# Altium schematic symbol library others.SchLib: 13 symbols
Pins are listed as number, name and electrical type; pins without a type are passive.

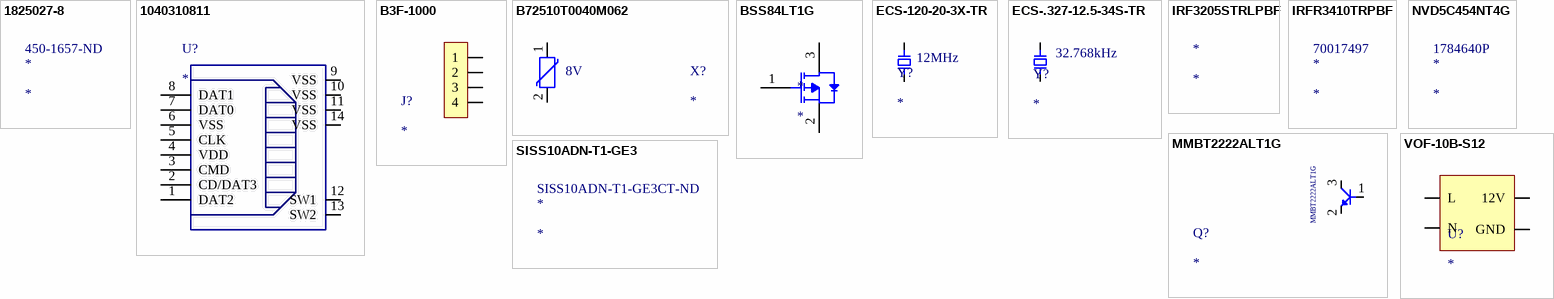
[diagram p0: symbols 1825027-8 to VOF-10B-S12]

## 1825027-8
designator *  Supplier Part Number 1: 450-1657-ND
Switch Tactile OFF (ON) SPST Round Button PC Pins 0.05A 24VDC 1.57N Thru-Hole Loose Piece; Manufacturer 1: TE Connectivity; Manufacturer Part Number 1: 1825027-8; Mechanical Life: 100000Cycles; Actuator Material: PBT; Actuator Color: Blue; Current Rating: 50mA; Max Voltage Rating (DC): 24V; Contact Resistance: 100mR; Illumination Type: Non-Illuminated; Switch Travel: 0.25mm; Switch Function: Off-Mom; Actuator Type: Standard; Actuator Length: 0.128inch; Supplier 1: Digi-Key; Stock 1: 233162; Pricing 1: 1=0,19000, 10=0,18000, 25=0,17080, 100=0,15520, 250=0,14584, 500=0,13344, 1000=0,11172, 2500=0,10861, 5000=0,10241 (USD); RoHS: Yes; Mount: Through Hole; Color: Blue; Contact Plating: Silver; Contact Material: Copper Alloy; Housing Material: Nylon; Material: Nylon; Min Operating Temperature: -35°C; Max Operating Temperature: 85°C; Packaging: Loose Piece; Package Quantity: 1000; Series: FSMRAJ, Alcoswitch; Termination: PC Pins; Orientation: Right Angle; Max Current Rating: 50mA; Voltage Rating (AC): 24V; Operating Force: 1.57N; Throw Configuration: SPST; Illumination Color: Blue; Voltage Rating (DC): 24V; Contact Current Rating: 50mA; Electrical Life: 100000Cycles; Type: Switch; Length: 7.11mm; Height: 7mm; Depth: 9.86mm; Radiation Hardening: No; RoHS Compliant: Yes; Lead Free: Lead Free; ELV: Compliant; ComponentLink1URL: https://datasheet.ciiva.com/30072/eng-cd-1825027-f-30072833.pdf?src-supplier=Onlinecomponents.com; ComponentLink1Description: https://datasheet.ciiva.com/30072/eng-cd-1825027-f-30072833.pdf?src-supplier=Onlinecomponents.com; ComponentLink2URL: https://datasheet.ciiva.com/16393/1825027-8-16393346.pdf?src-supplier=Future+Electronics; ComponentLink2Description: https://datasheet.ciiva.com/16393/1825027-8-16393346.pdf?src-supplier=Future+Electronics; ComponentLink3URL: https://datasheet.ciiva.com/8164/eng-cd-1825027-g4-8164921.pdf?src-supplier=Avnet; ComponentLink3Description: https://datasheet.ciiva.com/8164/eng-cd-1825027-g4-8164921.pdf?src-supplier=Avnet

## 1040310811
designator U?
1.10mm Pitch microSD Memory Card Connector, Surface Mount, Push-Pull Type, 1.42mm Height, with Detect Switch; Manufacturer 1: Molex; Manufacturer Part Number 1: 1040310811; Number of Contacts: 8; Current Rating: 500mA; Voltage Rating (AC): 10V; Mating Cycles: 10000; Gender: Female; Pitch: 1.1mm; Supplier 1: Digi-Key; Stock 1: 24019; Pricing 1: 1=2,12000, 10=1,80700, 100=1,49270, 1000=1,17842 (USD); RoHS: Yes; Mount: Standard,Surface Mount; Contact Material: Bronze; Contact Plating: Gold; Housing Material: Polymer; Min Operating Temperature: -25°C; Max Operating Temperature: 85°C; Number of Rows: 1; Orientation: Right Angle; Packaging: Tape and Reel; Package Quantity: 1; Termination: Solder; Connector Type: Connector; Number of Circuits: 8; Series: 104031; Length: 11.14mm; Width: 11.4mm; Height: 1.42mm; Depth: 11.4mm; Radiation Hardening: No; REACH SVHC: Unknown; Halogen Free: Low Halogen; ComponentLink1URL: https://datasheet.ciiva.com/16655/1040310811-memory-card-socket-16655292.pdf?src-supplier=Avnet+Europe; ComponentLink1Description: https://datasheet.ciiva.com/16655/1040310811-memory-card-socket-16655292.pdf?src-supplier=Avnet+Europe; ComponentLink2URL: https://datasheet.ciiva.com/4581/1040310811-memory-card-socket-153593-4581012.pdf?src-supplier=Mouser; ComponentLink2Description: https://datasheet.ciiva.com/4581/1040310811-memory-card-socket-153593-4581012.pdf?src-supplier=Mouser; ComponentLink3URL: https://datasheet.ciiva.com/683/1040310811-sd-683579.pdf?src-supplier=Digi-Key; ComponentLink3Description: https://datasheet.ciiva.com/683/1040310811-sd-683579.pdf?src-supplier=Digi-Key; ComponentLink4URL: https://datasheet.ciiva.com/3121/1040310811-memory-card-socket-3121437.pdf?src-supplier=Avnet; ComponentLink4Description: https://datasheet.ciiva.com/3121/1040310811-memory-card-socket-3121437.pdf?src-supplier=Avnet; ComponentLink5URL: https://datasheet.ciiva.com/15174/getdatasheetpartid-716154-15174887.pdf?src-supplier=Verical; ComponentLink5Description: https://datasheet.ciiva.com/15174/getdatasheetpartid-716154-15174887.pdf?src-supplier=Verical; ComponentLink6URL: https://datasheet.ciiva.com/16496/1040310811-memory-card-socket-16496702.pdf?src-supplier=Avnet+Asia; ComponentLink6Description: https://datasheet.ciiva.com/16496/1040310811-memory-card-socket-16496702.pdf?src-supplier=Avnet+Asia; ComponentLink7URL: https://datasheet.ciiva.com/683/1040310811-sd-683580.pdf?src-supplier=Digi-Key; ComponentLink7Description: https://datasheet.ciiva.com/683/1040310811-sd-683580.pdf?src-supplier=Digi-Key; ComponentLink8URL: https://datasheet.ciiva.com/683/1040310811-sd-683581.pdf?src-supplier=Digi-Key; ComponentLink8Description: https://datasheet.ciiva.com/683/1040310811-sd-683581.pdf?src-supplier=Digi-Key; Supplier Part Number 1: WM6357CT-ND
footprint micro sd
pins: 1 DAT2, 2 CD/DAT3, 3 CMD, 4 VDD, 5 CLK, 6 VSS, 7 DAT0, 8 DAT1, 9 VSS, 10 VSS, 11 VSS, 12 SW1, 13 SW2, 14 VSS

## B3F-1000
designator J?
Switch Tactile N.O. SPST Flat Round Button PC Pins 0.05A 24VDC 1000000Cycles 0.98N Thru-Hole Bag; Manufacturer 1: Omron; Manufacturer Part Number 1: B3F-1000; Actuator Color: Grey; Illumination Type: Non-Illuminated,Illuminated; Current Rating: 50mA; Max Voltage Rating (DC): 24V; Contact Resistance: 100mR; Switch Travel: 0.25mm; Switch Function: Off-Mom; Actuator Type: Standard; Number of Poles: 1; Actuator Length: 0.9mm; Supplier 1: RSComponents; Stock 1: 1660; Pricing 1: 50=0,47200, 125=0,43000, 250=0,39400, 500=0,36800 (GBP); RoHS: Yes; Mount: Through Hole; Number of Pins: 4; Contact Plating: Gold; Mechanical Life: 1000000Cycles; Weight: 0.008818oz; Contact Material: Gold,Silver; Min Operating Temperature: -25°C; Max Operating Temperature: 70°C; Package Quantity: 1500; Packaging: Bag; Series: B3F; Throw Configuration: SPST; Operating Force: 0.98N; Termination: PC Pins; Orientation: Straight; Voltage Rating (DC): 24V; Contact Current Rating: 50mA; Max Current Rating: 50mA; Electrical Life: 1000000Cycles; Insulation Resistance: 100MR; Length: 6mm; Width: 6mm; Height: 3.4mm; Depth: 6mm; Lead Free: Lead Free; RoHS Compliant: Yes; REACH SVHC: Unknown; ComponentLink1URL: https://datasheet.ciiva.com/26883/getdatasheetpartid-388862-26883373.pdf?src-supplier=Verical; ComponentLink1Description: https://datasheet.ciiva.com/26883/getdatasheetpartid-388862-26883373.pdf?src-supplier=Verical; ComponentLink2URL: https://datasheet.ciiva.com/19453/162886-19453387.pdf?src-supplier=Jameco; ComponentLink2Description: https://datasheet.ciiva.com/19453/162886-19453387.pdf?src-supplier=Jameco; ComponentLink3URL: https://datasheet.ciiva.com/2899/b3f-0811-2899719.pdf?src-supplier=Digi-Key; ComponentLink3Description: https://datasheet.ciiva.com/2899/b3f-0811-2899719.pdf?src-supplier=Digi-Key; ComponentLink4URL: https://datasheet.ciiva.com/5283/b3f-0811-26083-5283547.pdf?src-supplier=Mouser; ComponentLink4Description: https://datasheet.ciiva.com/5283/b3f-0811-26083-5283547.pdf?src-supplier=Mouser; ComponentLink5URL: https://datasheet.ciiva.com/16154/en-b3f-16154887.pdf?src-supplier=Onlinecomponents.com; ComponentLink5Description: https://datasheet.ciiva.com/16154/en-b3f-16154887.pdf?src-supplier=Onlinecomponents.com; ComponentLink6URL: https://datasheet.ciiva.com/14539/70175266-14539084.pdf?src-supplier=Allied+Electronics; ComponentLink6Description: https://datasheet.ciiva.com/14539/70175266-14539084.pdf?src-supplier=Allied+Electronics; ComponentLink7URL: https://datasheet.ciiva.com/1701/en-b3f-1701027.pdf?src-supplier=Newark; ComponentLink7Description: https://datasheet.ciiva.com/1701/en-b3f-1701027.pdf?src-supplier=Newark; ComponentLink8URL: https://datasheet.ciiva.com/1532/en-b3f-1532548.pdf?src-supplier=Element14; ComponentLink8Description: https://datasheet.ciiva.com/1532/en-b3f-1532548.pdf?src-supplier=Element14; ComponentLink9URL: https://datasheet.ciiva.com/14142/b3f-eng-datasheet-14142455.pdf?src-supplier=Distrelec; ComponentLink9Description: https://datasheet.ciiva.com/14142/b3f-eng-datasheet-14142455.pdf?src-supplier=Distrelec; ComponentLink10URL: https://datasheet.ciiva.com/20148/78-0136-20148399.pdf?src-supplier=Rapid+Electronics; ComponentLink10Description: https://datasheet.ciiva.com/20148/78-0136-20148399.pdf?src-supplier=Rapid+Electronics; Supplier Part Number 1: 6866847P
footprint SWITCH TACTILE SPST-NO 0.05A 24V
pins: 1, 2, 3, 4

## B72510T0040M062
designator X?  Varistor Voltage: 8V
VARISTOR 8V 100A 0805; Manufacturer 1: TDK EPCOS; Manufacturer Part Number 1: B72510T0040M062; Max Voltage Rating (AC): 4V; Max Voltage Rating (DC): 5.5V; Energy: 0.1J; Capacitance: 700pF; Clamping Voltage: 19V; Clamping Current: 1A; Voltage Tolerance: 20%; Supplier 1: Digi-Key; Stock 1: 93696; Pricing 1: 1=0,45000, 10=0,38300, 25=0,33480, 100=0,28710, 250=0,24880, 500=0,21054, 1000=0,16269 (USD); RoHS: Yes; Mount: Surface Mount; Case/Package: 0805; Case Code (Metric): 2012; Case Code (Imperial): 0805; Size Code: 0805; Min Operating Temperature: -55°C; Max Operating Temperature: 125°C; Packaging: Tape and Reel; Max Surge Current: 100A; Voltage Rating (AC): 4V; Voltage Rating (DC): 5.5V; Series: CT; Max Supply Voltage: 4V; Length: 2mm; Height: 1.4mm; Depth: 1.25mm; Lead Free: Lead Free; REACH SVHC: No SVHC; RoHS Compliant: Yes; ComponentLink1URL: https://datasheet.ciiva.com/15155/getdatasheetpartid-60856-15155319.pdf?src-supplier=Verical; ComponentLink1Description: https://datasheet.ciiva.com/15155/getdatasheetpartid-60856-15155319.pdf?src-supplier=Verical; ComponentLink2URL: https://datasheet.ciiva.com/48779/1899739-48779820.pdf?src-supplier=Element14; ComponentLink2Description: https://datasheet.ciiva.com/48779/1899739-48779820.pdf?src-supplier=Element14; ComponentLink3URL: https://datasheet.ciiva.com/48779/1899739-48779829.pdf?src-supplier=Element14; ComponentLink3Description: https://datasheet.ciiva.com/48779/1899739-48779829.pdf?src-supplier=Element14; Supplier Part Number 1: 495-2599-1-ND
footprint Varistor 0805
pins: 1, 2

## BSS84LT1G
designator *
MOSFET P-CH 50V 130MA SOT-23; Manufacturer 1: ON Semiconductor; Manufacturer Part Number 1: BSS84LT1G; Rise Time: 1ns; Rds On Max: 10R; Input Capacitance: 30pF; Number of Elements: 1; Max Power Dissipation: 225mW; Turn-Off Delay Time: 16ns; Turn-On Delay Time: 3.6ns; Gate to Source Voltage (Vgs): 20V; Nominal Vgs: 2V; Threshold Voltage: -2V; Element Configuration: Single; Voltage Rating (DC): -50V; Current Rating: -130mA; Supplier 1: RSComponents; Stock 1: 1800; Pricing 1: 200=0,08900, 500=0,08400, 1000=0,05900, 2000=0,05600 (GBP); RoHS: Yes; Case/Package: SOT-23-3; Number of Pins: 3; Contact Plating: Tin,Matte; Min Operating Temperature: -55°C; Max Operating Temperature: 150°C; Package Quantity: 1; Packaging: Tape and Reel; Drain to Source Voltage (Vdss): 50V; Continuous Drain Current (ID): 130mA; Fall Time: 1ns; Power Dissipation: 225mW; Drain to Source Breakdown Voltage: 50V; Drain to Source Resistance: 10R; On-State Resistance: 10R; Length: 0.119inch; Width: 0.055inch; Height: 0.04inch; Radiation Hardening: No; Lead Free: Lead Free; REACH SVHC: No SVHC; Halogen Free: Halogen Free; ComponentLink1URL: https://datasheet.ciiva.com/1190/86068-1190258.pdf?src-supplier=Element14; ComponentLink1Description: https://datasheet.ciiva.com/1190/86068-1190258.pdf?src-supplier=Element14; ComponentLink2URL: https://datasheet.ciiva.com/1255/1747989-1255091.pdf?src-supplier=Newark; ComponentLink2Description: https://datasheet.ciiva.com/1255/1747989-1255091.pdf?src-supplier=Newark; ComponentLink3URL: https://datasheet.ciiva.com/15198/getdatasheetpartid-86905-15198910.pdf?src-supplier=Verical; ComponentLink3Description: https://datasheet.ciiva.com/15198/getdatasheetpartid-86905-15198910.pdf?src-supplier=Verical; ComponentLink4URL: https://datasheet.ciiva.com/1190/86068-1190259.pdf?src-supplier=Element14; ComponentLink4Description: https://datasheet.ciiva.com/1190/86068-1190259.pdf?src-supplier=Element14; ComponentLink5URL: https://datasheet.ciiva.com/27054/1920992-27054773.pdf?src-supplier=Jameco; ComponentLink5Description: https://datasheet.ciiva.com/27054/1920992-27054773.pdf?src-supplier=Jameco; ComponentLink6URL: https://datasheet.ciiva.com/11168/bss84lt1-d-11168266.pdf?src-supplier=Avnet; ComponentLink6Description: https://datasheet.ciiva.com/11168/bss84lt1-d-11168266.pdf?src-supplier=Avnet; ComponentLink7URL: https://datasheet.ciiva.com/16335/bss84lt1-d-16335336.pdf?src-supplier=Future+Electronics; ComponentLink7Description: https://datasheet.ciiva.com/16335/bss84lt1-d-16335336.pdf?src-supplier=Future+Electronics; ComponentLink8URL: https://datasheet.ciiva.com/26146/bss84lt1-d-26146231.pdf?src-supplier=Avnet+Europe; ComponentLink8Description: https://datasheet.ciiva.com/26146/bss84lt1-d-26146231.pdf?src-supplier=Avnet+Europe; ComponentLink9URL: https://datasheet.ciiva.com/8115/bss84lt1-d-8115421.pdf?src-supplier=Avnet; ComponentLink9Description: https://datasheet.ciiva.com/8115/bss84lt1-d-8115421.pdf?src-supplier=Avnet; ComponentLink10URL: https://datasheet.ciiva.com/6380/bss84lt1-d-6380651.pdf?src-supplier=Digi-Key; ComponentLink10Description: https://datasheet.ciiva.com/6380/bss84lt1-d-6380651.pdf?src-supplier=Digi-Key; ComponentLink11URL: https://datasheet.ciiva.com/6380/bss84lt1-d-6380652.pdf?src-supplier=Digi-Key; ComponentLink11Description: https://datasheet.ciiva.com/6380/bss84lt1-d-6380652.pdf?src-supplier=Digi-Key; ComponentLink12URL: https://datasheet.ciiva.com/6380/bss84lt1-d-6380649.pdf?src-supplier=Digi-Key; ComponentLink12Description: https://datasheet.ciiva.com/6380/bss84lt1-d-6380649.pdf?src-supplier=Digi-Key; Supplier Part Number 1: 463329P
pins: 1, 2, 3

## ECS-120-20-3X-TR
designator Y?  Frequency: 12MHz
CRYSTAL 12.0000MHZ 20PF SMD; Manufacturer 1: ECS International; Manufacturer Part Number 1: ECS-120-20-3X-TR; Tolerance: 30ppm; ESR (Equivalent Series Resistance): 60R; Frequency Stability: 50ppm; Supplier 1: Digi-Key; Stock 1: 16869; Pricing 1: 1=0,34000, 10=0,28800, 50=0,25880, 100=0,23000, 500=0,21850, 1000=0,18400 (USD); RoHS: Yes; Mount: Surface Mount; Number of Pins: 2; Min Operating Temperature: -10°C; Max Operating Temperature: 70°C; Package Quantity: 1; Load Capacitance: 20pF; Packaging: Tape and Reel; Frequency Tolerance: 30ppm; Termination: SMD/SMT; Series: CSM-3X; Length: 0.276inch; Width: 4.1mm; Height: 0.091inch; Lead Free: Lead Free; ComponentLink1URL: https://datasheet.ciiva.com/852/csm-3x-852331.pdf?src-supplier=Digi-Key; ComponentLink1Description: https://datasheet.ciiva.com/852/csm-3x-852331.pdf?src-supplier=Digi-Key; ComponentLink2URL: https://datasheet.ciiva.com/852/csm-3x-852332.pdf?src-supplier=Digi-Key; ComponentLink2Description: https://datasheet.ciiva.com/852/csm-3x-852332.pdf?src-supplier=Digi-Key; ComponentLink3URL: https://datasheet.ciiva.com/852/csm-3x-852333.pdf?src-supplier=Digi-Key; ComponentLink3Description: https://datasheet.ciiva.com/852/csm-3x-852333.pdf?src-supplier=Digi-Key; Supplier Part Number 1: XC1770CT-ND
footprint clk 12M
pins: 13, 14

## ECS-.327-12.5-34S-TR
designator Y?  Frequency: 32.768kHz
Crystal 0.032768MHz ±20ppm (Tol) 12.5pF Flexural 70000Ohm 2-Pin CSMD T/R; Manufacturer 1: ECS International; Manufacturer Part Number 1: ECS-.327-12.5-34S-TR; ESR (Equivalent Series Resistance): 70kR; Supplier 1: Digi-Key; Stock 1: 0; Pricing 1: 1=1,37000, 10=1,21400, 50=1,13520, 100=1,00320, 500=0,95040, 1000=0,79200 (USD); RoHS: Yes; Mount: Surface Mount; Case/Package: SMD/SMT; Number of Pins: 2; Min Operating Temperature: -40°C; Max Operating Temperature: 125°C; Package Quantity: 3000; Packaging: Tape and Reel; Frequency Tolerance: 20ppm; Load Capacitance: 12.5pF; Termination: SMD/SMT; Series: ECX-34S; Tolerance: 20ppm; Length: 0.126inch; Width: 1.5mm; Height: 0.035inch; Lead Pitch: 1.8mm; RoHS Compliant: Yes; Lead Free: Lead Free; ComponentLink1URL: https://datasheet.ciiva.com/15047/ecx-34s-15047020.pdf?src-supplier=Digi-Key; ComponentLink1Description: https://datasheet.ciiva.com/15047/ecx-34s-15047020.pdf?src-supplier=Digi-Key; ComponentLink2URL: https://datasheet.ciiva.com/15047/ecx-34s-15047021.pdf?src-supplier=Digi-Key; ComponentLink2Description: https://datasheet.ciiva.com/15047/ecx-34s-15047021.pdf?src-supplier=Digi-Key; ComponentLink3URL: https://datasheet.ciiva.com/15047/ecx-34s-15047022.pdf?src-supplier=Digi-Key; ComponentLink3Description: https://datasheet.ciiva.com/15047/ecx-34s-15047022.pdf?src-supplier=Digi-Key; Supplier Part Number 1: XC1967CT-ND
footprint clk 32k
pins: 13, 14

## IRF3205STRLPBF
designator *
INFINEON         IRF3205STRLPBF             MOSFET Transistor, N Channel, 110 A, 55 V, 0.008 ohm, 10 V, 4 V; Continuous Drain Current (ID): 110A; Gate to Source Voltage (Vgs): 20V; Input Capacitance: 3.247nF; Power Dissipation: 200W; Turn-Off Delay Time: 50ns; Turn-On Delay Time: 14ns; Drain to Source Breakdown Voltage: 55V; Rds On Max: 8mR; Threshold Voltage: 4V; Supplier 1: Digi-Key; Manufacturer 1: Infineon; Manufacturer Part Number 1: IRF3205STRLPBF; Stock 1: 0; Pricing 1: 1=1,87000, 10=1,67900, 100=1,34960 (USD); RoHS: Yes; Mount: Surface Mount; Case/Package: D2PAK; Number of Pins: 3; Min Operating Temperature: -55°C; Max Operating Temperature: 175°C; Packaging: Cut Tape; Drain to Source Voltage (Vdss): 55V; Max Power Dissipation: 200W; Drain to Source Resistance: 8mR; Max Dual Supply Voltage: 55V; Length: 0.42inch; Width: 0.38inch; Height: 0.19inch; Lead Free: Contains Lead; REACH SVHC: No SVHC; Halogen Free: Halogen Free; Supplier Part Number 1: IRF3205STRLPBFDKR-ND

## IRFR3410TRPBF
designator *  Supplier Part Number 1: 70017497
Trans MOSFET N-CH 100V 31A 3-Pin(2+Tab) DPAK T/R; Manufacturer 1: International Rectifier; Manufacturer Part Number 1: IRFR3410TRPBF; Gate to Source Voltage (Vgs): 20V; Rise Time: 27ns; Number of Elements: 1; Fall Time: 13ns; Power Dissipation: 3W; Turn-Off Delay Time: 40ns; Turn-On Delay Time: 12ns; Rds On Max: 39mR; Input Capacitance: 1.69nF; Element Configuration: Single; Supplier 1: Allied Electronics; Stock 1: 0; RoHS: Yes; Mount: Surface Mount; Case/Package: TO-252-3; Number of Pins: 3; Min Operating Temperature: -55°C; Max Operating Temperature: 175°C; Continuous Drain Current (ID): 31A; Packaging: Tape and Reel; Package Quantity: 2000; Max Power Dissipation: 3W; Drain to Source Voltage (Vdss): 100V; Drain to Source Breakdown Voltage: 100V; Drain to Source Resistance: 39mR; On-State Resistance: 39MR; Series: HEXFET®; Drain-source On Resistance-Max: 39MR; Length: 6.73mm; Width: 6.22mm; Height: 2.39mm; Radiation Hardening: No; Lead Free: Lead Free; REACH SVHC: No SVHC; ComponentLink1URL: https://datasheet.ciiva.com/29755/irfr3410pbf-29755317.pdf?src-supplier=Digi-Key; ComponentLink1Description: https://datasheet.ciiva.com/29755/irfr3410pbf-29755317.pdf?src-supplier=Digi-Key; ComponentLink2URL: https://datasheet.ciiva.com/29755/irfr3410pbf-29755322.pdf?src-supplier=Digi-Key; ComponentLink2Description: https://datasheet.ciiva.com/29755/irfr3410pbf-29755322.pdf?src-supplier=Digi-Key; ComponentLink3URL: https://datasheet.ciiva.com/16442/irfr3410pbf-16442124.pdf?src-supplier=Future+Electronics; ComponentLink3Description: https://datasheet.ciiva.com/16442/irfr3410pbf-16442124.pdf?src-supplier=Future+Electronics

## MMBT2222ALT1G
designator Q?  Manufacturer Part Number 1: MMBT2222ALT1G
Trans GP BJT NPN 40V 0.6A 3-Pin SOT-23 T/R; Manufacturer 1: ON Semiconductor; Power Dissipation: 300mW; Collector Base Voltage (VCBO): 75V; Emitter Base Voltage (VEBO): 6V; Max Collector Current: 600mA; Element Configuration: Single; Gain Bandwidth Product: 300MHz; hFE Min: 100; Number of Elements: 1; Collector Emitter Saturation Voltage: 1V; Type: General Purpose; Supplier 1: Digi-Key; Stock 1: 0; Pricing 1: 1=0,16000, 10=0,14800, 100=0,08030, 500=0,04944, 1000=0,03371 (USD); RoHS: Yes; Case/Package: SOT-23-3; Number of Pins: 3; Contact Plating: Tin,Matte; Min Operating Temperature: -55°C; Max Operating Temperature: 150°C; Packaging: Tape and Reel; Polarity: NPN; Collector Emitter Voltage (VCEO): 40V; Collector Emitter Breakdown Voltage: 40V; Max Power Dissipation: 300mW; Package Quantity: 1; Frequency: 300MHz; Transition Frequency: 300MHz; Voltage Rating (DC): 40V; Current Rating: 600mA; Collector-emitter Voltage-Max: 1V; Series: -; Max Breakdown Voltage: 40V; Max Frequency: 300MHz; Length: 2.9mm; Width: 1.3mm; Height: 0.94mm; Radiation Hardening: No; Lead Free: Lead Free; REACH SVHC: No SVHC; ComponentLink1URL: https://datasheet.ciiva.com/16199/mmbt2222lt1-d-16199072.pdf?src-supplier=Future+Electronics; ComponentLink1Description: https://datasheet.ciiva.com/16199/mmbt2222lt1-d-16199072.pdf?src-supplier=Future+Electronics; ComponentLink2URL: https://datasheet.ciiva.com/15139/getdatasheetpartid-82691-15139077.pdf?src-supplier=Verical; ComponentLink2Description: https://datasheet.ciiva.com/15139/getdatasheetpartid-82691-15139077.pdf?src-supplier=Verical; ComponentLink3URL: https://datasheet.ciiva.com/976/mmbt2222lt1-d-976344.pdf?src-supplier=Digi-Key; ComponentLink3Description: https://datasheet.ciiva.com/976/mmbt2222lt1-d-976344.pdf?src-supplier=Digi-Key; ComponentLink4URL: https://datasheet.ciiva.com/976/mmbt2222lt1-d-976345.pdf?src-supplier=Digi-Key; ComponentLink4Description: https://datasheet.ciiva.com/976/mmbt2222lt1-d-976345.pdf?src-supplier=Digi-Key; ComponentLink5URL: https://datasheet.ciiva.com/976/mmbt2222lt1-d-976346.pdf?src-supplier=Digi-Key; ComponentLink5Description: https://datasheet.ciiva.com/976/mmbt2222lt1-d-976346.pdf?src-supplier=Digi-Key; ComponentLink6URL: https://datasheet.ciiva.com/11201/mmbt2222lt1-d-11201869.pdf?src-supplier=Avnet; ComponentLink6Description: https://datasheet.ciiva.com/11201/mmbt2222lt1-d-11201869.pdf?src-supplier=Avnet; ComponentLink7URL: https://datasheet.ciiva.com/25998/mmbt2222lt1-d-25998815.pdf?src-supplier=Avnet+Europe; ComponentLink7Description: https://datasheet.ciiva.com/25998/mmbt2222lt1-d-25998815.pdf?src-supplier=Avnet+Europe; ComponentLink8URL: https://datasheet.ciiva.com/7972/mmbt2222lt1-d-7972057.pdf?src-supplier=Element14; ComponentLink8Description: https://datasheet.ciiva.com/7972/mmbt2222lt1-d-7972057.pdf?src-supplier=Element14; ComponentLink9URL: https://datasheet.ciiva.com/7972/mmbt2222lt1-d-7972058.pdf?src-supplier=Element14; ComponentLink9Description: https://datasheet.ciiva.com/7972/mmbt2222lt1-d-7972058.pdf?src-supplier=Element14; ComponentLink10URL: https://datasheet.ciiva.com/14546/70099528-14546715.pdf?src-supplier=Allied+Electronics; ComponentLink10Description: https://datasheet.ciiva.com/14546/70099528-14546715.pdf?src-supplier=Allied+Electronics; Supplier Part Number 1: MMBT2222ALT1GOSCT-ND
pins: 1, 2, 3

## NVD5C454NT4G
designator *  Supplier Part Number 1: 1784640P
Manufacturer 1: ON Semiconductor; Manufacturer Part Number 1: NVD5C454NT4G; Drain to Source Voltage (Vdss): 40V; Continuous Drain Current (ID): 82A; Rds On Max: 4.2mR; Input Capacitance: 1.9nF; Max Power Dissipation: 56W; Supplier 1: RSComponents; Stock 1: 6870; Pricing 1: 100=0,58400, 250=0,56600, 500=0,49500, 1000=0,40300 (GBP); RoHS: Yes; Mount: Surface Mount; Case/Package: DPAK; Min Operating Temperature: -55°C; Max Operating Temperature: 175°C; Packaging: Tape and Reel; ComponentLink1URL: http://www.onsemi.com/pub/Collateral/NVD5C454N-D.PDF?src-supplier=Digi-Key; ComponentLink1Description: http://www.onsemi.com/pub/Collateral/NVD5C454N-D.PDF?src-supplier=Digi-Key

## SISS10ADN-T1-GE3
designator *  Supplier Part Number 1: SISS10ADN-T1-GE3CT-ND
Trans MOSFET N-CH 40V 31.7A 8-Pin PowerPAK 1212 EP T/R; Manufacturer 1: Vishay Siliconix; Manufacturer Part Number 1: SISS10ADN-T1-GE3; Continuous Drain Current (ID): 109A; Rds On Max: 2.65mR; Input Capacitance: 3.03nF; Max Power Dissipation: 56.8W; Supplier 1: Digi-Key; Stock 1: 7888; Pricing 1: 1=0,69000, 10=0,60300, 100=0,46250, 500=0,36564, 1000=0,29251 (USD); RoHS: Yes; Mount: Surface Mount; Min Operating Temperature: -55°C; Max Operating Temperature: 150°C; Packaging: Tape and Reel; Drain to Source Voltage (Vdss): 40V; ComponentLink1URL: http://www.farnell.com/datasheets/2786200.pdf?src-supplier=Farnell; ComponentLink1Description: http://www.farnell.com/datasheets/2786200.pdf?src-supplier=Farnell; ComponentLink2URL: http://www.vishay.com/docs/79237/siss10adn.pdf?src-supplier=Digi-Key; ComponentLink2Description: http://www.vishay.com/docs/79237/siss10adn.pdf?src-supplier=Digi-Key; ComponentLink3URL: http://www.farnell.com/datasheets/2786200.pdf?src-supplier=Newark; ComponentLink3Description: http://www.farnell.com/datasheets/2786200.pdf?src-supplier=Newark

## VOF-10B-S12
designator U?
AC/DC CONVERTER 12V 10W; Manufacturer 1: CUI; Manufacturer Part Number 1: VOF-10B-S12; Number of Outputs: 1; Max Output Current: 850mA; Efficiency: 82.32%; Approvals: CE,cURus; Supplier 1: Digi-Key; Stock 1: 0; Pricing 1: 1=12,02000, 5=11,85000, 10=11,67900, 25=10,99200, 50=10,64840, 100=10,30500, 250=9,96152, 500=9,61800 (USD); RoHS: Yes; Mount: Through Hole; Min Operating Temperature: -25°C; Max Operating Temperature: 70°C; Voltage - Output 1: 12V; Max Power Dissipation: 10W; RoHS Compliant: Yes; ComponentLink1URL: https://www.cui.com/product/resource/digikeypdf/vof-10b.pdf?src-supplier=Digi-Key; ComponentLink1Description: https://www.cui.com/product/resource/digikeypdf/vof-10b.pdf?src-supplier=Digi-Key; Supplier Part Number 1: 102-4145-ND
footprint 12v
pins: 1 N, 2 L, 3 12V, 4 GND